# EAGLE library part ATTINY*5 (library attiny85)
8-bit AVR tiny Microcontroller Status aktiv aktiv aktiv ATtiny25(V) ATtiny45(V) ATtiny85(V) General purpose working registers 32 SRAM 128 B 256 B 512 B Program flash memory 2 kB 4 kB 8 kB EEPROM 128 B 256 B 512 B 8-bit Timer/Counter 1 8-bit Timer/Counter (high speed) 1 USI 1 ADC channels 4 ADC resolution 10 bit AC 1 Watchdog 1 General purpose I/O 6 External interrupts 6 Operating voltage 1.8 ... 5.5 V for ATtiny#5V 2.7 ... 5.5 V for ATtiny#5 Speed grade 0 ... 4 MHz @ 1.8 ... 5.5 V for ATtiny#5V 0 ... 10 MHz @ 2.7 ... 5.5 V for ATtiny#5V 0 ... 10 MHz @ 2.7 ... 5.5 V for ATtiny#5 0 ... 20 MHz @ 4.5 ... 5.5V for ATtiny#5 Clock options calibrated internal 8/6.4 MHz oscillator external crystal oscillator / ceramic resonator external 32.768 kHz low-frequency crystal oscillator internal 128 kHz oscillator high frequency PLL clock external clock input
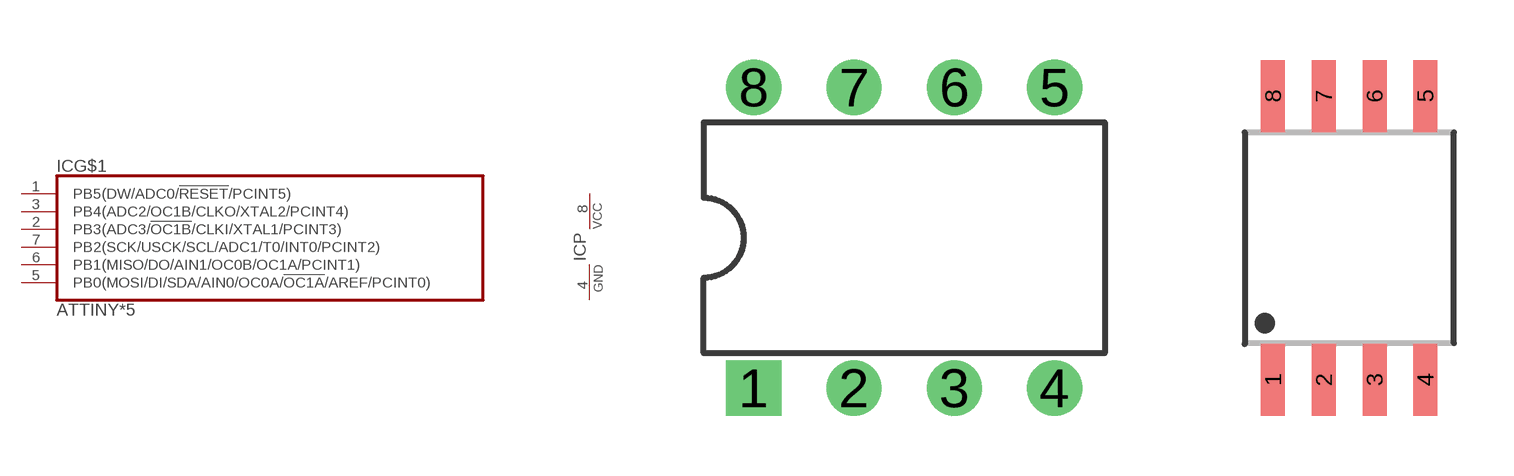
[diagram p0: symbol with the pads of DIL08; footprints DIL08, 8S2]

Designator prefix IC; gates G$1=TINY85 P=PWR

## ATTINY25-20PU, ATTINY45-20PU, ATTINY85-20PU  [DIL08]
1  G$1:PB5(DW/ADC0/!RESET!/PCINT5)
2  G$1:PB3(ADC3/!OC1B!/CLKI/XTAL1/PCINT3)
3  G$1:PB4(ADC2/OC1B/CLKO/XTAL2/PCINT4)
4  P:GND  pwr
5  G$1:PB0(MOSI/DI/SDA/AIN0/OC0A/!OC1A!/AREF/PCINT0)
6  G$1:PB1(MISO/DO/AIN1/OC0B/OC1A/PCINT1)
7  G$1:PB2(SCK/USCK/SCL/ADC1/T0/INT0/PCINT2)
8  P:VCC  pwr

## ATTINY25-20SU, ATTINY45-20SU, ATTINY85-20SU  [8S2]
Pads as for DIL08

## ATTINY25-20SH, ATTINY45-20SH, ATTINY85-20SH  [8S2]
Pads as for DIL08

## ATTINY25-20SN  [8S2]
Pads as for DIL08

## ATTINY25-20SSU, ATTINY85-20SSU  [SO8]
Pads as for DIL08

## ATTINY25-20SSH, ATTINY85-20SSH  [SO8]
Pads as for DIL08

## ATTINY25-20SSN  [SO8]
Pads as for DIL08

## ATTINY45-20XU  [MO-153AA]
Pads as for DIL08

## ATTINY25-20MU, ATTINY45-20MU, ATTINY85-20MU  [QFN20_4X4_0.50]
1  G$1:PB5(DW/ADC0/!RESET!/PCINT5)
2  G$1:PB3(ADC3/!OC1B!/CLKI/XTAL1/PCINT3)
5  G$1:PB4(ADC2/OC1B/CLKO/XTAL2/PCINT4)
8  P:GND  pwr
11  G$1:PB0(MOSI/DI/SDA/AIN0/OC0A/!OC1A!/AREF/PCINT0)
12  G$1:PB1(MISO/DO/AIN1/OC0B/OC1A/PCINT1)
14  G$1:PB2(SCK/USCK/SCL/ADC1/T0/INT0/PCINT2)
15  P:VCC  pwr
EXP  P:GND  pwr

## ATTINY25-20MF  [QFN20_4X4_0.50]
Pads as for QFN20_4X4_0.50

## ATTINY25V-10PU, ATTINY45V-10PU, ATTINY85V-10PU  [DIL08]
Pads as for DIL08

## ATTINY25V-10SU, ATTINY45V-10SU, ATTINY85V-10SU  [8S2]
Pads as for DIL08

## ATTINY25V-10SH, ATTINY45V-10SH, ATTINY85V-10SH  [8S2]
Pads as for DIL08

## ATTINY25V-10SN  [8S2]
Pads as for DIL08

## ATTINY25V-10SSU, ATTINY85V-10SSU  [SO8]
Pads as for DIL08

## ATTINY25V-10SSH, ATTINY85V-10SSH  [SO8]
Pads as for DIL08

## ATTINY25V-10SSN  [SO8]
Pads as for DIL08

## ATTINY45V-10XU  [MO-153AA]
Pads as for DIL08

## ATTINY25V-10MU, ATTINY45V-10MU, ATTINY85V-10MU  [QFN20_4X4_0.50]
Pads as for QFN20_4X4_0.50

## ATTINY25V-10MF  [QFN20_4X4_0.50]
Pads as for QFN20_4X4_0.50

## Footprint DIL08 (pad centres in mm)
DIL package, pin row distance 300mil
drill 0.8 pad 1.4 square: 1 -3.81,-3.81
drill 0.8 pad 1.4: 2 -1.27,-3.81; 3 1.27,-3.81; 4 3.81,-3.81; 5 3.81,3.81; 6 1.27,3.81; 7 -1.27,3.81; 8 -3.81,3.81

## Footprint 8S2 (pad centres in mm)
8 leads Plastic Small Outline Package, 208mil body width, 50mil lead pitch JEDEC: Atmel: 8S2 Texas Instruments: PS (R-PDSO-G8)
smd 0.6 x 1.8: 1 -1.905,-3.55; 2 -0.635,-3.55; 3 0.635,-3.55; 4 1.905,-3.55; 5 1.905,3.55; 6 0.635,3.55; 7 -0.635,3.55; 8 -1.905,3.55

## Footprint SO8 (pad centres in mm)
Small Outline IC, 150mil body width, 50mil lead pitch package/pad dimensions according to IPC-SM-782, RLP No. 300A JEDEC: MS-012 AA IPC: SO8 other notations: SO-8, SO08, SO-08, SOIC8, SOIC-8, SOIC08, SOIC-08
smd 0.6 x 2.2: 1 -1.905,-2.6; 2 -0.635,-2.6; 3 0.635,-2.6; 4 1.905,-2.6; 5 1.905,2.6; 6 0.635,2.6; 7 -0.635,2.6; 8 -1.905,2.6

## Footprint MO-153AA (pad centres in mm)
Small Shrink Outline Package, 3.0mm x 4.4mm body, 0.65mm lead pitch JEDEC: MO-153, variation AA NXP: TSSOP8 (SOT530) Texas Instruments: PW (R-PDSO-G8) other notations: TSSOP8, TSSOP-8, TSSOP08, TSSOP-08
smd 0.4 x 1.35: 1 -0.975,-2.925; 2 -0.325,-2.925; 3 0.325,-2.925; 4 0.975,-2.925; 5 0.975,2.925; 6 0.325,2.925; 7 -0.325,2.925; 8 -0.975,2.925

## Footprint QFN20_4X4_0.50 (pad centres in mm)
20-Lead Plastic QFN, 4mm x 4mm body, 0.5mm lead pitch, exposed pad 0.45 mm lead length JEDEC: MO-220 ATMEL Code: 20M1, ZFV other notations: MFL20
smd 0.9 x 0.3: 1 -2,1; 2 -2,0.5; 3 -2,0; 4 -2,-0.5; 5 -2,-1; 11 2,-1; 12 2,-0.5; 13 2,0; 14 2,0.5; 15 2,1
smd 0.3 x 0.9: 6 -1,-2; 7 -0.5,-2; 8 0,-2; 9 0.5,-2; 10 1,-2; 16 1,2; 17 0.5,2; 18 0,2; 19 -0.5,2; 20 -1,2
smd 2.4 x 2.4: EXP 0,0